# Altium footprint library clouds_v302.PcbLib: 31 footprints (part 1 of 2)
Each footprint in its own frame and in the unit in brackets; x right, y up, seen from the top. Pads: shape width x height; smd on the part's side, far side on the other; paste and mask are expansions set on the pad; w line width, h text height; cw(c..) or ccw(c..) is an arc to the next point about the centre after c.
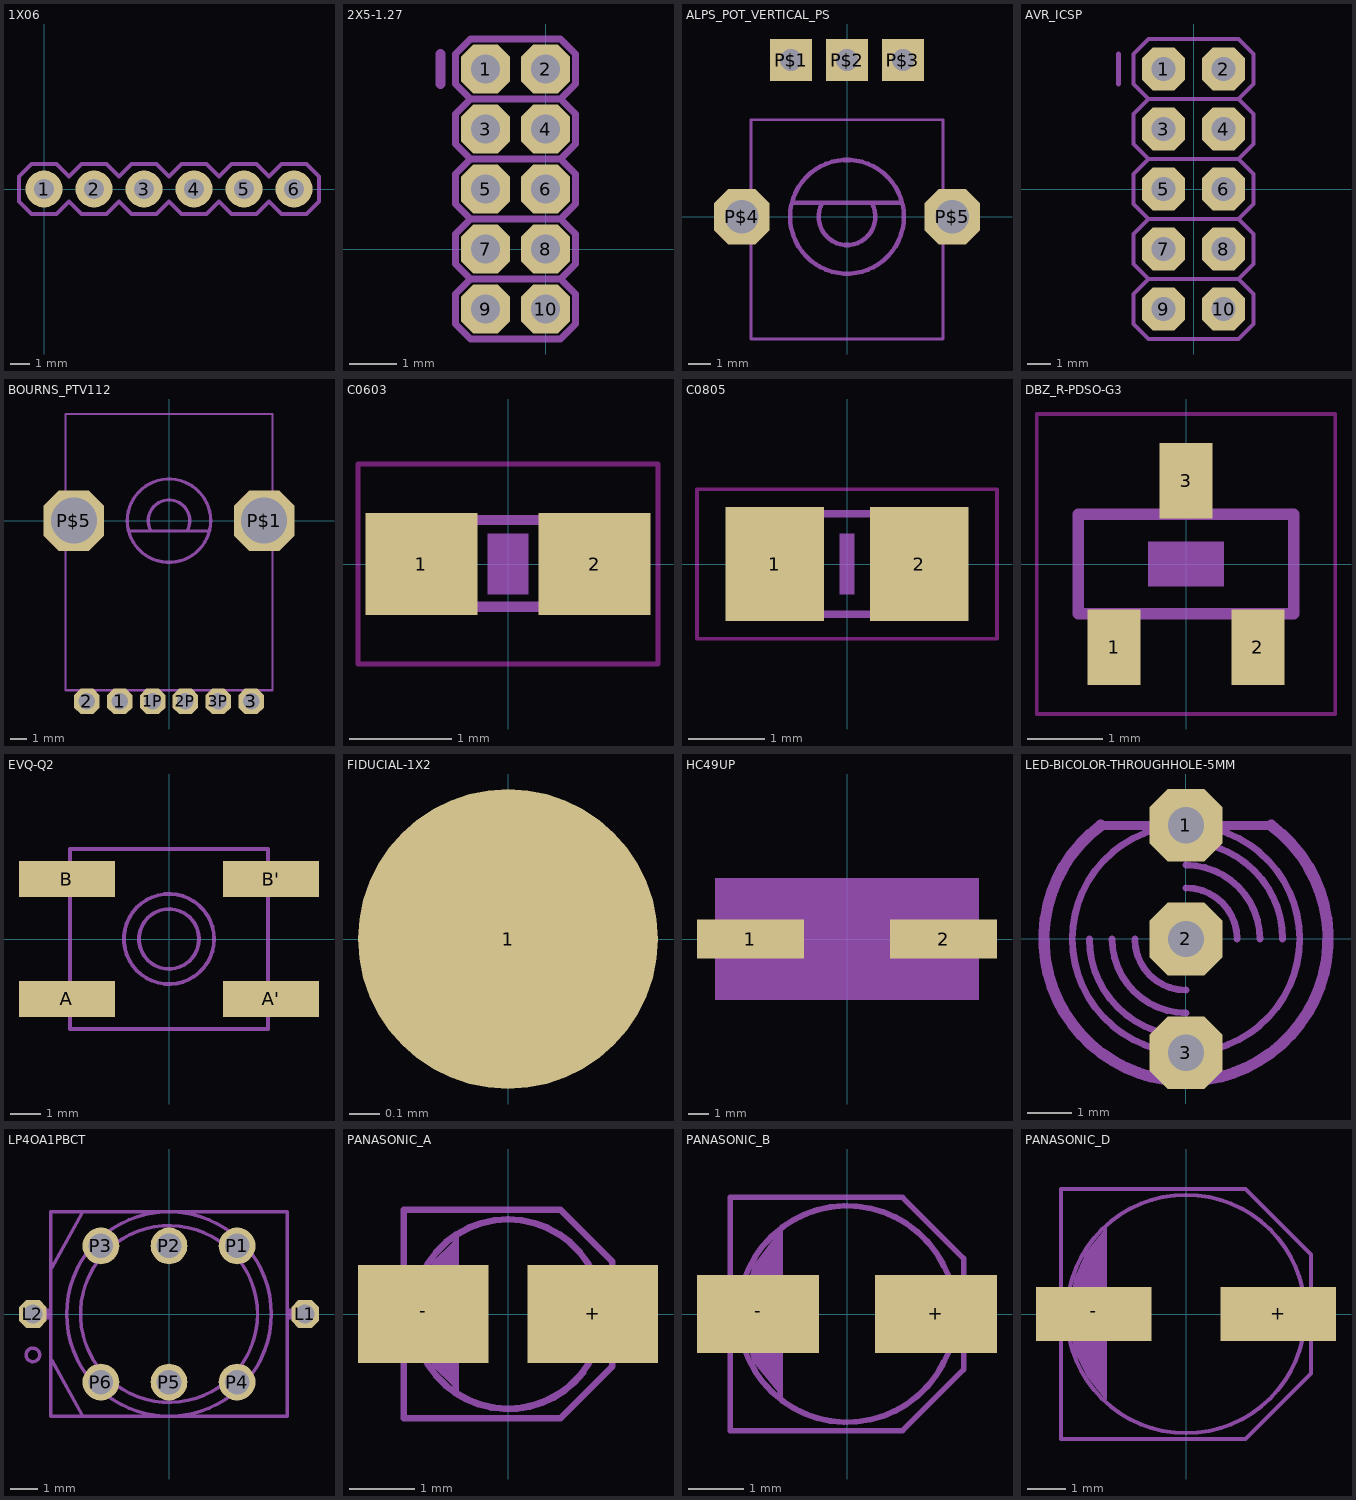
[diagram p0: the footprints below, top view; thin cyan lines are the x and y axes]

## 1X06 [mil] "1X06"
pads (6):
  round 74 hole 40: 1(0,0) 2(100,0) 3(200,0) 4(300,0) 5(400,0) 6(500,0)
Mechanical 3:
  lines w8: -50,-25 -25,-50 25,-50 50,-25 75,-50 125,-50 150,-25 175,-50 225,-50 250,-25 275,-50 325,-50 350,-25 375,-50 425,-50 450,-25 475,-50 525,-50 550,-25 550,25 525,50 475,50 450,25 425,50 375,50 350,25 325,50 275,50 250,25 225,50 175,50 150,25 125,50 75,50 50,25 25,50 -25,50 -50,25 -50,-25
Mechanical 16:
  rectangle: -10,-10 10,10
  rectangle: 90,-10 110,10
  rectangle: 190,-10 210,10
  rectangle: 290,-10 310,10
  rectangle: 390,-10 410,10
  rectangle: 490,-10 510,10

## 2X5-1.27 [mil] "2X5-1.27"
pads (10):
  oct 40.67x40.67 hole 24: 1(-50,150) 2(0,150) 3(-50,100) 4(0,100) 5(-50,50) 6(0,50) 7(-50,0) 8(0,0) 9(-50,-50) 10(0,-50)
Mechanical 3:
  lines w6: -62.5,-25 -75,-12.5 -75,12.5 -62.5,25 ; -62.5,-25 12.5,-25 ; -62.5,-25 -75,-37.5 -75,-62.5 -62.5,-75 12.5,-75 25,-62.5 25,-37.5 12.5,-25 ; -62.5,25 -75,37.5 -75,62.5 -62.5,75 ; -62.5,25 12.5,25 ; -62.5,75 -75,87.5 -75,112.5 -62.5,125 ; -62.5,75 12.5,75 ; -62.5,125 -75,137.5 -75,162.5 -62.5,175 12.5,175 25,162.5 25,137.5 12.5,125 ; -62.5,125 12.5,125 ; 12.5,-25 25,-12.5 25,12.5 12.5,25 ; 12.5,25 25,37.5 25,62.5 12.5,75 ; 12.5,75 25,87.5 25,112.5 12.5,125
  lines w8: -87.5,137.5 -87.5,162.5
Mechanical 16:
  rectangle: -55,145 -45,155
  rectangle: -5,145 5,155
  rectangle: -55,95 -45,105
  rectangle: -5,95 5,105
  rectangle: -55,45 -45,55
  rectangle: -5,45 5,55
  rectangle: -55,-5 -45,5
  rectangle: -5,-5 5,5
  rectangle: -55,-55 -45,-45
  rectangle: -5,-55 5,-45

## ALPS_POT_VERTICAL_PS [mm] "ALPS_POT_VERTICAL_PS"
pads (5):
  rect 1.88x1.88 hole 1: P$1(-2.5,7) P$2(0,7) P$3(2.5,7)
  oct 2.459x2.459 hole 1.5: P$4(-4.7,0) P$5(4.7,0)
Mechanical 2:
  circle w0.203: c0,0 r2.54
  lines w0.127: -4.295,-5.46 4.295,-5.46 4.295,4.33 -4.295,4.33 -4.295,-5.46
  lines w0.203: -2.45,0.625 2.425,0.625 ; -1.1,0.625 ccw(c0,0) 1.1,0.625 -1.1,0.625

## AVR_ICSP [mil] "AVR_ICSP"
pads (10):
  oct 71.65x71.65 hole 40: 1(-50,200) 2(50,200) 3(-50,100) 4(50,100) 5(-50,0) 6(50,0) 7(-50,-100) 8(50,-100) 9(-50,-200) 10(50,-200)
Mechanical 3:
  rectangle: -60,-10 -40,10
  lines w6: -75,-150 -100,-125 -100,-75 -75,-50 ; -75,-150 75,-150 ; -75,-150 -100,-175 -100,-225 -75,-250 75,-250 100,-225 100,-175 75,-150 ; -75,-50 -100,-25 -100,25 -75,50 ; -75,-50 75,-50 ; -75,50 -100,75 -100,125 -75,150 ; -75,50 75,50 ; -75,150 -100,175 -100,225 -75,250 75,250 100,225 100,175 75,150 ; -75,150 75,150 ; 75,-150 100,-125 100,-75 75,-50 ; 75,-50 100,-25 100,25 75,50 ; 75,50 100,75 100,125 75,150
  lines w8: -125,175 -125,225
Mechanical 16:
  rectangle: -60,190 -40,210
  rectangle: 40,190 60,210
  rectangle: 40,90 60,110
  rectangle: -60,90 -40,110
  rectangle: 40,-10 60,10
  rectangle: 40,-210 60,-190
  rectangle: -60,-210 -40,-190
  rectangle: -60,-110 -40,-90
  rectangle: 40,-110 60,-90

## BOURNS_PTV112 [mm] "BOURNS_PTV112"
pads (8):
  oct 1.549x1.549 hole 1: 1(-3,-11) 1P(-1,-11) 2(-5,-11) 2P(1,-11) 3(5,-11) 3P(3,-11)
  oct 3.689x3.689 hole 2.8: P$1(5.8,0) P$5(-5.8,0)
Mechanical 2:
  circle w0.203: c0,0 r2.54
  lines w0.127: -6.295,-10.33 6.295,-10.33 6.295,6.5 -6.295,6.5 -6.295,-10.33
  lines w0.203: -2.425,-0.625 2.45,-0.625 ; -1.1,-0.625 cw(c0,0) 1.1,-0.625 -1.1,-0.625

## C0603 [mm] "C0603"
pads (2):
  rect 1.1x1 smd: 1(-0.85,0) 2(0.85,0)
Keep-Out Layer:
  lines w0.051: -1.473,-0.983 1.473,-0.983 1.473,0.983 -1.473,0.983 -1.473,-0.983
Mechanical 8:
  rectangle: -0.2,-0.3 0.2,0.3
Mechanical 16:
  rectangle: -0.838,-0.47 -0.338,0.48
  rectangle: 0.33,-0.47 0.83,0.48
  lines w0.102: -0.356,-0.419 0.356,-0.419 ; -0.356,0.432 0.356,0.432

## C0805 [mil] "C0805"
pads (2):
  rect 51.18x59.06 smd: 1(-37.4,0) 2(37.4,0)
Keep-Out Layer:
  lines w2: -77.68,-38.7 77.68,-38.7 77.68,38.7 -77.68,38.7 -77.68,-38.7
Mechanical 8:
  rectangle: -3.94,-15.75 3.94,15.75
Mechanical 16:
  rectangle: -43,-28.5 -13.47,28.59
  rectangle: 14,-28.5 43.53,28.59
  lines w4: -15,25.98 15,25.98 ; -14.02,-25.98 15,-25.98

## DBZ_R-PDSO-G3 [mm] "DBZ_R-PDSO-G3"
pads (3):
  rect 0.7x1 smd: 1(-0.95,-1.1) 2(0.95,-1.1) 3(0,1.1)
Keep-Out Layer:
  lines w0.051: -1.973,-1.983 1.973,-1.983 1.973,1.983 -1.973,1.983 -1.973,-1.983
Mechanical 8:
  rectangle: -0.5,-0.3 0.5,0.3
Mechanical 16:
  rectangle: -0.229,0.711 0.229,1.295
  rectangle: 0.711,-1.295 1.168,-0.711
  rectangle: -1.168,-1.295 -0.711,-0.711
  lines w0.152: -1.422,-0.66 1.422,-0.66 1.422,0.66 -1.422,0.66 -1.422,-0.66

## EVQ-Q2 [mm] "EVQ-Q2"
pads (4):
  rect 3.2x1.2 smd: A(-3.4,-2) A'(3.4,-2) B(-3.4,2) B'(3.4,2)
Mechanical 2:
  circle w0.127: c0,0 r1.503
  circle w0.127: c0,0 r1
  lines w0.127: -3.3,-3 3.3,-3 3.3,3 -3.3,3 -3.3,-3

## FIDUCIAL-1X2 [mm] "FIDUCIAL-1X2"
pads (1):
  rrect100% 1x1 smd paste-0.5: 1(0,0)

## HC49UP [mil] "HC49UP"
pads (2):
  rect 210x76 smd: 1(-190,0) 2(190,0)
Mechanical 2:
  lines w2: -201.15,-45 ccw(c-135,0) -135,-80 135,-80 ccw(c135,0) 201.14,-45 ; -201.15,45 cw(c-135,-0.01) -135,80 135,80 cw(c135,0) 201.15,45 ; -156.8,-45 ccw(c-135,0.01) -135,-50 135,-50 ccw(c135,0.01) 156.8,-45 ; -156.8,45 cw(c-135,-0.01) -135,50 135,50 cw(c135,-0.01) 156.8,45 ; -40,0 -25,0 ; 25,0 40,0
  lines w6: -225,-45 -225,-85 ccw(c-215,-85) -215,-95 215,-95 ccw(c215,-85) 225,-85 225,-45 ; -225,45 -225,85 cw(c-215,85) -215,95 215,95 cw(c215,85) 225,85 225,45 ; -25,-25 -25,0 -25,25 ; 25,-25 25,0 25,25 ; -10,-25 -10,25 10,25 10,-25 -10,-25
Mechanical 12:
  rectangle: -260,-120 260,120
Mechanical 16:
  lines w2: -201.15,-45 cw(c-135,0) -201.15,45 ; -156.8,-45 cw(c-135,0) -156.8,45 ; 156.8,-45 ccw(c135,0) 156.8,45 ; 201.15,-45 ccw(c135,0) 201.15,45
  lines w6: -225,-45 -225,-15 ; -225,45 -225,15 ; 225,-45 225,45 ; 225,-15 255,-15 255,15 225,15 ; -225,-15 -225,15 ; -225,-15 -255,-15 -255,15 -225,15

## LED-BICOLOR-THROUGHHOLE-5MM [mil] "LED-BICOLOR-THROUGHHOLE-5MM"
pads (3):
  oct 63.9x63.9 hole 32: 1(0,100) 2(0,0) 3(0,-100)
Mechanical 2:
  circle w6: c0,0 r100
  lines w8: -75,100 75,100
  lines w10: -75,100 ccw(c0,0) 75,100
Mechanical 16:
  lines w6: -85,0 ccw(c0,0) 0,-85 ; -65,0 ccw(c0,0) 0,-65 ; -45,0 ccw(c0,0) 0,-45 ; 0,45 cw(c0,0) 45,0 ; 0,65 cw(c0,0) 65,0 ; 0,85 cw(c0,0) 85,0

## LP4OA1PBCT [mm] "LP4OA1PBCT"
pads (8):
  oct 1.017x1.017 hole 0.7: L1(5,0) L2(-5,0)
  round 1.35 hole 0.9: P1(2.5,2.5) P2(0,2.5) P3(-2.5,2.5) P4(2.5,-2.5) P5(0,-2.5) P6(-2.5,-2.5)
Mechanical 2:
  circle w0.127: c-5,-1.5 r0.25
  lines w0.127: -4.35,-3.75 4.35,-3.75 4.35,3.75 -4.35,3.75 -4.35,-3.75
Mechanical 16:
  circle w0.127: c0,0 r3.758
  circle w0.127: c0,0 r3.25
  rectangle: -5,-0.2 -4.4,0.2
  rectangle: 4.4,-0.2 5,0.2
  lines w0.127: -4.3,-1.7 -3.2,-3.7 ; -4.3,1.7 -3.2,3.7

## PANASONIC_A [mm] "PANASONIC_A"
pads (2):
  rect 2x1.5 smd: +(1.3,0) -(-1.3,0)
Mechanical 2:
  lines w0.102: -1.6,-0.95 -1.6,-1.6 0.8,-1.6 1.5,-0.9 ; -1.6,0.95 -1.6,1.6 0.8,1.6 1.5,0.9 ; -1.1,-0.95 ccw(c0.004,0) 1.15,-0.9 ; -1.1,0.95 cw(c0,0) 1.1,0.95
Mechanical 16:
  circle w0.102: c0,0 r1.45
  rectangle: -1.8,-0.3 -1.45,0.3
  rectangle: 1.45,-0.3 1.8,0.3
  region: -0.85,1.1 -1.15,0.8 -1.35,0.3 -1.35,-0.3 -1.15,-0.8 -0.85,-1.1 -0.85,1.05
  lines w0.102: -0.8,-1.2 -0.8,1.2 ; -1.6,-1.6 0.8,-1.6 1.6,-0.8 1.6,0.8 0.8,1.6 -1.6,1.6 -1.6,-1.6

## PANASONIC_B [mil] "PANASONIC_B"
pads (2):
  rect 86.61x55.12 smd: +(62.99,0) -(-62.99,0)
Mechanical 2:
  lines w4: -82.68,-33.46 -82.68,-82.68 39.37,-82.68 82.68,-39.37 ; -82.68,33.46 -82.68,82.68 39.37,82.68 82.68,39.37 ; -68.9,-33.46 ccw(c0,0.01) 68.9,-33.46 ; -68.9,33.46 cw(c0,-0.01) 68.9,33.46
Mechanical 16:
  circle w4: c0,0 r76.77
  rectangle: -90.55,-13.78 -72.83,13.78
  rectangle: 74.8,-13.78 90.55,13.78
  region: -49.21,57.09 -66.93,33.46 -72.83,13.78 -72.83,-15.75 -66.93,-33.46 -49.21,-55.12 -49.21,55.12
  lines w4: -47.24,-59.06 -47.24,59.06 ; -82.68,-82.68 39.37,-82.68 82.68,-39.37 82.68,39.37 39.37,82.68 -82.68,82.68 -82.68,-82.68

## PANASONIC_D [mm] "PANASONIC_D"
pads (2):
  rect 3x1.4 smd: +(2.4,0) -(-2.4,0)
Mechanical 2:
  lines w0.102: -3.25,-0.95 -3.25,-3.25 1.55,-3.25 3.25,-1.55 3.25,-0.95 ; -3.25,0.95 -3.25,3.25 1.55,3.25 3.25,1.55 3.25,0.95 ; -2.95,-0.95 ccw(c0,0) 2.95,-0.95 ; -2.95,0.95 cw(c0,0) 2.95,0.95
Mechanical 16:
  circle w0.102: c0,0 r3.1
  rectangle: -3.65,-0.35 -3.05,0.35
  rectangle: 3.05,-0.35 3.65,0.35
  region: -2.15,2.15 -2.6,1.6 -2.9,0.9 -3.05,0 -2.9,-0.95 -2.55,-1.65 -2.15,-2.15 -2.15,2.1
  lines w0.102: -2.1,-2.2 -2.1,2.25 ; -3.25,-3.25 1.55,-3.25 3.25,-1.55 3.25,1.55 1.55,3.25 -3.25,3.25 -3.25,-3.25